# Altium schematic symbol library Schlib8211586.SchLib: 3 symbols
Pins are listed as number, name and electrical type; pins without a type are passive.

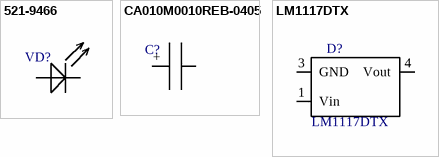
[diagram p0: symbols 521-9466 to LM1117DTX]

## 521-9466
designator VD?  (value not drawn)
Светодиод,5мм,жёлтый; Manufacture: Dialight; Name: 521-9466; BoM: 521-9466 "Dialight"
footprint LED_5mm
pins: A, C

## CA010M0010REB-0405
designator C?  (value not drawn)
Электролитический SND
footprint CAPAE4643X63N (Aluminum Electrolytic Capacitor, Body 4,30x4,30x6,30mm, IPC Medium Density)
pins: +, -

## LM1117DTX
designator D?
footprint LM1117DTX (SOT223, 4-Leads, Body 6,50x7,00mm (avg), Pitch 2,30mm, IPC Medium Density)
pins: 1 Vin (power), 3 GND (power), 4 Vout (power)